# EAGLE library part CONN-FFC-SFW15R (library FirePick)
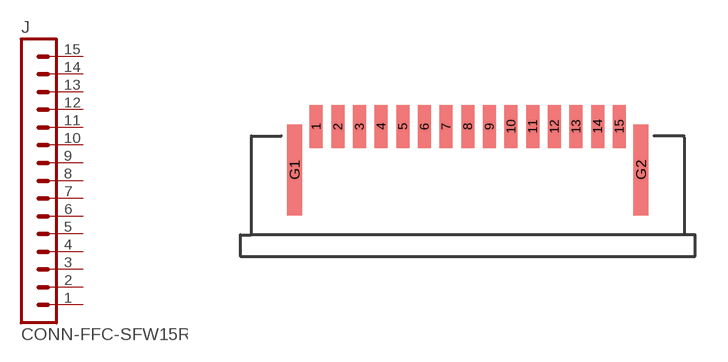
[diagram p2: symbol with the pads of CON-FFC-SFW15R; footprint CON-FFC-SFW15R]

Designator prefix J

## CONN-FFC-SFW15R  [CON-FFC-SFW15R]
1  1  pas
2  2  pas
3  3  pas
4  4  pas
5  5  pas
6  6  pas
7  7  pas
8  8  pas
9  9  pas
10  10  pas
11  11  pas
12  12  pas
13  13  pas
14  14  pas
15  15  pas

## Footprint CON-FFC-SFW15R (pad centres in mm)
Digikey 609-1905-1-ND
smd 0.6 x 2: 1 -7,3.04; 2 -6,3.04; 3 -5,3.04; 4 -4,3.04; 5 -3,3.04; 6 -2,3.04; 7 -1,3.04; 8 0,3.04; 9 1,3.04; 10 2,3.04; 11 3,3.04; 12 4,3.04; 13 5,3.04; 14 6,3.04; 15 7,3.04
smd 0.7 x 4.2: G1 -8,1.04; G2 8,1.04